# Altium footprint library SW_PCM12SMTR.PcbLib: 1 footprints
Each footprint in its own frame and in the unit in brackets; x right, y up, seen from the top. Pads: shape width x height; smd on the part's side, far side on the other; paste and mask are expansions set on the pad; w line width, h text height; cw(c..) or ccw(c..) is an arc to the next point about the centre after c.
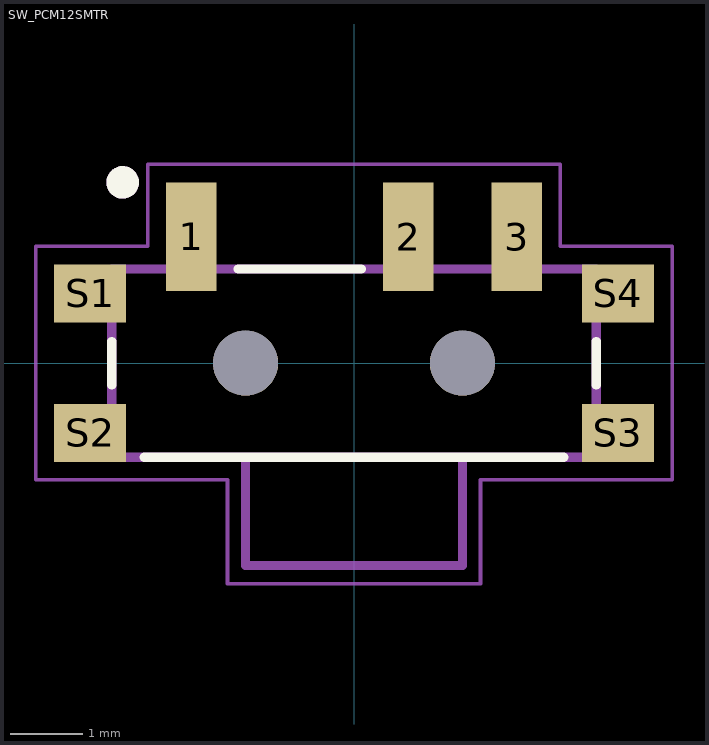
[diagram p0: the footprint, top view; thin cyan lines are the x and y axes]

## SW_PCM12SMTR [mm]
pads (9):
  rect 0.7x1.5 smd: 1(-2.25,1.75) 2(0.75,1.75) 3(2.25,1.75)
  rect 1x0.8 smd: S1(-3.65,0.965) S2(-3.65,-0.965) S3(3.65,-0.965) S4(3.65,0.965)
  round 0.9 hole 0.9 unplated: ""(-1.5,0) ""(1.5,0)
Top Overlay:
  circle w0.25: c-3.2,2.5 r0.1
  lines w0.127: -3.35,-0.3 -3.35,0.3 ; -2.9,-1.3 2.9,-1.3 ; -1.6,1.3 0.1,1.3 ; 3.35,-0.3 3.35,0.3
Mechanical 13:
  circle w0.25: c-3.2,2.5 r0.1
  lines w0.127: -1.5,-1.3 1.5,-1.3 ; -1.5,-1.3 -3.35,-1.3 -3.35,1.3 3.35,1.3 3.35,-1.3 1.5,-1.3 ; -1.5,-1.3 -1.5,-2.8 1.5,-2.8 1.5,-1.3
Mechanical 15:
  lines w0.05: -4.4,-1.615 -1.75,-1.615 -1.75,-3.05 1.75,-3.05 1.75,-1.615 4.4,-1.615 4.4,1.615 2.85,1.615 2.85,2.75 -2.85,2.75 -2.85,1.615 -4.4,1.615 -4.4,-1.615
3D body "step_temp.STEP": height 1.4, standoff -0.51, extent -3.861,-2.794 3.861,2.184